# Altium schematic symbol library RPSLib.SchLib: 241 symbols (part 3 of 8)
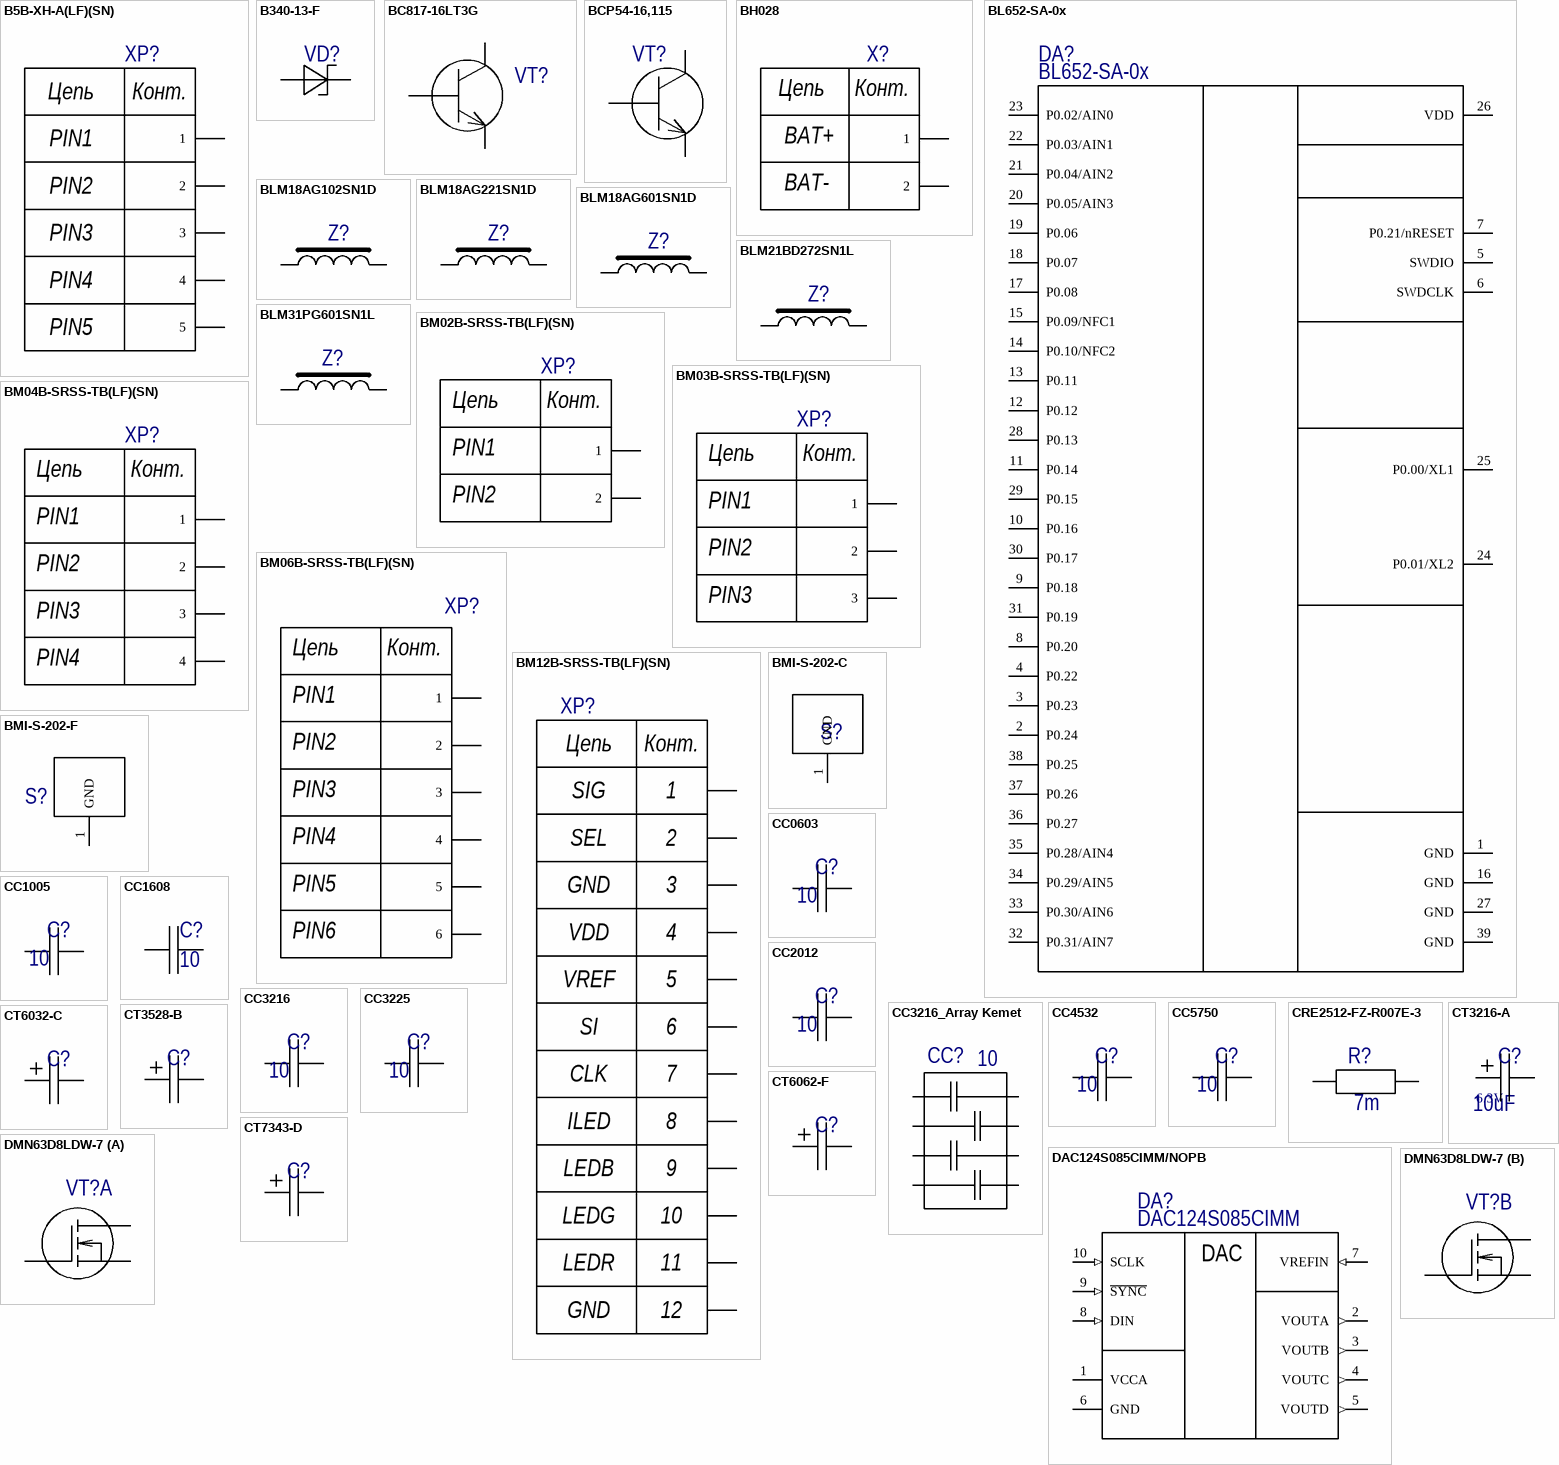
[diagram p27: symbols B5B-XH-A(LF)(SN) to DMN63D8LDW-7]

## CC1005
designator C?  value 10  (hidden comment: *)
Конденсатор 1.0x0.5 мм; Voltage: 16; Tolerance: ±5%; РКД Наименование: CC1005M - NP0 - 16 V - 10 pF ±5%; Type: *; PartNo: *; Supplier Part Number 1: *; Supplier 1: *; Manufacturer: *; Manufacturer Part Number: *
footprint CAPC1005X05N (Chip Capacitor, 2-Leads, Body 1.00x0.50mm, IPC Medium Density)
pins: 1, 2

## CC1608
designator C?  value 10  (hidden comment: *)
Конденсатор 1.6x0.8 мм; Tolerance: ±10%; ТКЕ: X7R; РКД Наименование: CC1608M - NP0 - 16 V - 10 pF ±10%; Voltage: *; Type: *; PartNo: *; Supplier Part Number 1: *; Supplier 1: *; Manufacturer: *; Manufacturer Part Number: *
footprint CAPC1608X09L (Chip Capacitor, 2-Leads, Body 1.60x0.80mm, IPC High Density)
footprint CAPC1608X05N (Chip Capacitor, 2-Leads, Body 1.60x0.80mm, IPC Medium Density)
pins: 1, 2

## CC2012
designator C?  value 10  (hidden comment: *)
Конденсатор 2.0x1.2 мм; Voltage: *; Type: *; PartNo: *; Supplier Part Number 1: *; Supplier 1: *; РКД Наименование: *; Manufacturer: *; Manufacturer Part Number: *
footprint CAPC2012X06N (Chip Capacitor, 2-Leads, Body 2.00x1.25mm, IPC Medium Density)
pins: 1, 2

## CC3216
designator C?  value 10  (hidden comment: *)
Конденсатор 3.2x1.6 мм; Tolerance: ±5%; Voltage: *; Type: *; PartNo: *; Supplier Part Number 1: *; Supplier 1: *; РКД Наименование: *; Manufacturer: *; Manufacturer Part Number: *
footprint CAPC3216X12L (Chip Capacitor, 2-Leads, Body 3.20x1.60mm, IPC High Density)
pins: 1, 2

## CC3216_Array Kemet
designator CC?  value 10  (hidden comment: *)
Конденсатор массиы 3,2x1.6 мм; Manufacturer: Kemet; Tolerance: ±10%; ТКЕ: X7R; Voltage: *; Type: *; PartNo: *; Supplier Part Number 1: *; Supplier 1: *; Manufacturer Part Number: *
footprint CAF-80P320X160-8N (Chip Array, Flat, 8-Leads, Pitch 0,80mm,  Body 3,20x1,60mm,  IPC Medium Density)
pins: 1, 2, 3, 4, 5, 6, 7, 8

## CC3225
designator C?  value 10  (hidden comment: *)
Конденсатор 3.2x2.5 мм; Voltage: *; Type: *; PartNo: *; Supplier Part Number 1: *; Supplier 1: *; Manufacturer: *; Manufacturer Part Number: *
footprint CAPC3225X28N (Chip Capacitor, 2-Leads, Body 3.20x2.50mm, IPC Medium Density)
pins: 1, 2

## CC4532
designator C?  value 10  (hidden comment: *)
Конденсатор 4.5x3.2 мм; Voltage: *; Type: *; PartNo: *; Supplier Part Number 1: *; Supplier 1: *; Manufacturer: *; Manufacturer Part Number: *
footprint CAPC4532X25N (Chip Capacitor, 2-Leads, Body 4.50x3.20mm, IPC Medium Density)
pins: 1, 2

## CC5750
designator C?  value 10  (hidden comment: *)
Конденсатор 5.7x5.0 мм; Voltage: *; Type: *; PartNo: *; Supplier Part Number 1: *; Supplier 1: *; Manufacturer: *; Manufacturer Part Number: *
footprint CAPC5750X23N (Chip Capacitor, 2-Leads, Body 5.70x5.00mm, IPC Medium Density)
pins: 1, 2

## CRE2512-FZ-R007E-3
designator R?  value 7m  (hidden comment: CRE2512-FZ-R007E-3)
RES 0.007 OHM 1% 3W 2512; Manufacturer: Bourns; Resistance: 7mR; Temperature Coefficient: 75ppm/°C; Supplier 1: Digi-Key; Manufacturer Part Number: CRE2512-FZ-R007E-3; RoHS: Yes; Category: Chip SMD Resistors; Stock 1: 15181; Pricing 1: 1=0,77000, 10=0,66800, 25=0,58680, 50=0,53640, 100=0,46550, 250=0,40480, 500=0,33598, 1000=0,27526 (USD); Mount: Surface Mount; Case/Package: 2512; Case Code (Metric): 6432; Case Code (Imperial): 2512; Contact Plating: Tin; Min Operating Temperature: -55°C; Max Operating Temperature: 170°C; Packaging: Cut Tape; Tolerance: 1%; Power Rating: 3W; Composition: Metal Film,Metal Alloy,Thick Film; Number of Terminations: 2; Termination: Solder; Max Power Dissipation: 3W; Features: Moisture Resistant,Automotive AEC-Q200; Length: 0.254inch; Height: 0.035inch; Width: 0.132inch; Depth: 3.35mm; REACH SVHC: No SVHC; ComponentLink1URL: https://datasheet.ciiva.com/46424/1838634-46424806.pdf?src-supplier=Element14; ComponentLink1Description: https://datasheet.ciiva.com/46424/1838634-46424806.pdf?src-supplier=Element14; ComponentLink2URL: https://datasheet.ciiva.com/46424/1838634-46424807.pdf?src-supplier=Element14; ComponentLink2Description: https://datasheet.ciiva.com/46424/1838634-46424807.pdf?src-supplier=Element14; Supplier Part Number 1: CRE2512-FZ-R007E-3CT-ND
footprint RESC6432X09N_CRE2512-R005-009 (Chip Resistor, 2-Leads, Body 6,40x3,20mm, IPC Medium Density)
pins: 1, 2

## CT3216-A
designator C?  value 10uF  Voltage: 6.3V  (hidden comment: *)
Tantalum Surface Mount Capacitor, Size A; Type: *; PartNo: *; Supplier Part Number 1: *; Supplier 1: *; Manufacturer: *; Manufacturer Part Number: *; Tolerance: *
footprint CAPMP3216X16N-A (Molded Capacitor, 2-Leads, Body 3.20x1.60mm, IPC Medium Density)
pins: 1, 2

## CT3528-B
designator C?  (value not drawn)
Tantalum Surface Mount Capacitor, Size B; Type: *; Value: *; Voltage: *; PartNo: *; Supplier Part Number 1: *; Supplier 1: *; Manufacturer: *; Manufacturer Part Number: *; Tolerance: *
footprint CAPMP3528X19N-B (Molded Capacitor, 2-Leads, Body 3.50x2.80mm, IPC Medium Density)
pins: 1, 2

## CT6032-C
designator C?  (value not drawn)
Tantalum Surface Mount Capacitor, Size C; Type: *; Value: *; Voltage: *; PartNo: *; Supplier Part Number 1: *; Supplier 1: *; Manufacturer: *; Manufacturer Part Number: *; Tolerance: *
footprint CAPMP6032X25N-C (Molded Capacitor, 2-Leads, Body 6.00x3.20mm, IPC Medium Density)
pins: 1, 2

## CT6062-F
designator C?  (value not drawn)
Tantalum Surface Mount Capacitor, Size F; Type: *; Value: *; Voltage: *; PartNo: *; Supplier Part Number 1: *; Supplier 1: *; Manufacturer: *; Manufacturer Part Number: *; Tolerance: *
footprint CAPMP6062X47N-F (Molded Capacitor, 2-Leads, Body 6.00x6.20mm, IPC Medium Density)
pins: 1, 2

## CT7343-D
designator C?  (value not drawn)
Tantalum Surface Mount Capacitor, Size D; Tolerance: ±; Type: *; Value: *; Voltage: *; PartNo: *; Supplier Part Number 1: *; Supplier 1: *; Manufacturer: *; Manufacturer Part Number: *
footprint CAPMP7343X28N-D (Molded Capacitor, 2-Leads, Body 7.30x4.30mm, IPC Medium Density)
pins: 1, 2

## DAC124S085CIMM/NOPB
designator DA?, comment DAC124S085CIMM
TEXAS INSTRUMENTS - DAC124S085CIMM/NOPB - DIGITAL TO ANALOG CONVERTER DAC, 12 BIT, MSOP-10; Manufacturer: TI National Semiconductor; Settling Time: 8.5us; Resolution: 12b; Integral Nonlinearity (INL): 8LSB; Output Type: Voltage; Max Supply Voltage: 5.5V; Min Supply Voltage: 2.7V; Interface: SPI; Number of Channels: 4; Operating Supply Voltage: 5V; Number of Bits: 12; Polarity: Unipolar; Supply Type: Single; Power Consumption: 1.1mW; Nominal Supply Current: 480uA; Differential Nonlinearity: 2LSB; Supplier 1: Digi-Key; Manufacturer Part Number: DAC124S085CIMM/NOPB; Stock 1: 3369; Pricing 1: 1=6,47000, 10=5,84600, 100=4,62260, 500=3,94284 (USD); RoHS: Yes; Mount: Surface Mount; Case/Package: VSSOP; Number of Pins: 10; Weight: 0.000836oz; Contact Plating: Tin; Min Operating Temperature: -40°C; Max Operating Temperature: 105°C; Package Quantity: 1000; Packaging: Tape and Reel; Number of DAC Channels: 4; Number of Converters: 4; Max Power Dissipation: 1.1mW; Length: 3mm; Height: 0.86mm; Width: 3mm; Radiation Hardening: No; REACH SVHC: No SVHC; Lead Free: Lead Free; ComponentLink1URL: https://datasheet.ciiva.com/41460/001186509-da-01-en-ic-dac-1-dac124s085cimm-nopb-msop-10-tid-41460671.pdf?src-supplier=Conrad; ComponentLink1Description: https://datasheet.ciiva.com/41460/001186509-da-01-en-ic-dac-1-dac124s085cimm-nopb-msop-10-tid-41460671.pdf?src-supplier=Conrad; ComponentLink2URL: https://datasheet.ciiva.com/7632/1850953-7632325.pdf?src-supplier=Element14; ComponentLink2Description: https://datasheet.ciiva.com/7632/1850953-7632325.pdf?src-supplier=Element14; ComponentLink3URL: https://datasheet.ciiva.com/6666/dac124s085-6666502.pdf?src-supplier=Digi-Key; ComponentLink3Description: https://datasheet.ciiva.com/6666/dac124s085-6666502.pdf?src-supplier=Digi-Key; ComponentLink4URL: https://datasheet.ciiva.com/6666/dac124s085-6666505.pdf?src-supplier=Digi-Key; ComponentLink4Description: https://datasheet.ciiva.com/6666/dac124s085-6666505.pdf?src-supplier=Digi-Key; ComponentLink5URL: https://datasheet.ciiva.com/6666/dac124s085-6666507.pdf?src-supplier=Digi-Key; ComponentLink5Description: https://datasheet.ciiva.com/6666/dac124s085-6666507.pdf?src-supplier=Digi-Key; ComponentLink6URL: https://datasheet.ciiva.com/49118/1850953-49118555.pdf?src-supplier=Element14; ComponentLink6Description: https://datasheet.ciiva.com/49118/1850953-49118555.pdf?src-supplier=Element14; Supplier Part Number 1: DAC124S085CIMM/NOPBCT-ND
footprint TSSOP50P490X110-10N (TSSOP, 10-Leads, Body 3,00x3,00mm, Pitch 0,50mm, IPC Medium Density)
pins: 1 VCCA (power), 2 VOUTA (out), 3 VOUTB (out), 4 VOUTC (out), 5 VOUTD (out), 6 GND (power), 7 VREFIN (in), 8 DIN (in), 9 ~{SYNC} (in), 10 SCLK (in)
text: DAC

## DMN63D8LDW-7
designator VT?  (value not drawn)
MOSFET 2N-CH 30V 0.22A SOT363; Manufacturer: Diodes; Rise Time: 3.2ns; Rds On Max: 2.8R; Input Capacitance: 22pF; Continuous Drain Current (ID): 260mA; Max Power Dissipation: 300mW; Turn-On Delay Time: 3.3ns; Turn-Off Delay Time: 12ns; Fall Time: 6.3ns; Number of Elements: 2; Power Dissipation: 400mW; Threshold Voltage: 1.5V; Gate to Source Voltage (Vgs): 20V; Element Configuration: Dual; FET Type: 2 N-Channel; Supplier 1: Digi-Key; Manufacturer Part Number: DMN63D8LDW-7; RoHS: Yes; Category: MOSFETs; Stock 1: 258650; Pricing 1: 1=0,31000, 10=0,25000, 100=0,10250, 500=0,08552, 1000=0,05942 (USD); Mount: Surface Mount; Case/Package: SOT-363; Number of Pins: 6; Weight: 0.000212oz; Contact Plating: Tin,Matte; Min Operating Temperature: -55°C; Max Operating Temperature: 150°C; Package Quantity: 3000; Packaging: Tape and Reel; Drain to Source Voltage (Vdss): 30V; Drain to Source Resistance: 2.8R; Number of Channels: 2; Drain to Source Breakdown Voltage: 30V; Length: 2.2mm; Height: 1mm; Width: 1.35mm; Radiation Hardening: No; REACH SVHC: No SVHC; Lead Free: Lead Free; ComponentLink1URL: https://datasheet.ciiva.com/30023/dmn63d8ldw-30023824.pdf?src-supplier=Avnet; ComponentLink1Description: https://datasheet.ciiva.com/30023/dmn63d8ldw-30023824.pdf?src-supplier=Avnet; ComponentLink2URL: https://datasheet.ciiva.com/6384/dmn63d8ldw-6384534.pdf?src-supplier=Digi-Key; ComponentLink2Description: https://datasheet.ciiva.com/6384/dmn63d8ldw-6384534.pdf?src-supplier=Digi-Key; Supplier Part Number 1: DMN63D8LDW-7CT-ND
footprint SOT65P210X100-6N (SOT23, 6-Leads, Body 2,00x2,10mm, Pitch 0,65mm, IPC Medium Density)
part A pins: 1 S1, 2 G1, 6 D1
part B pins: 3 D2, 4 S2, 5 G2
1 alternate drawing of the same symbol

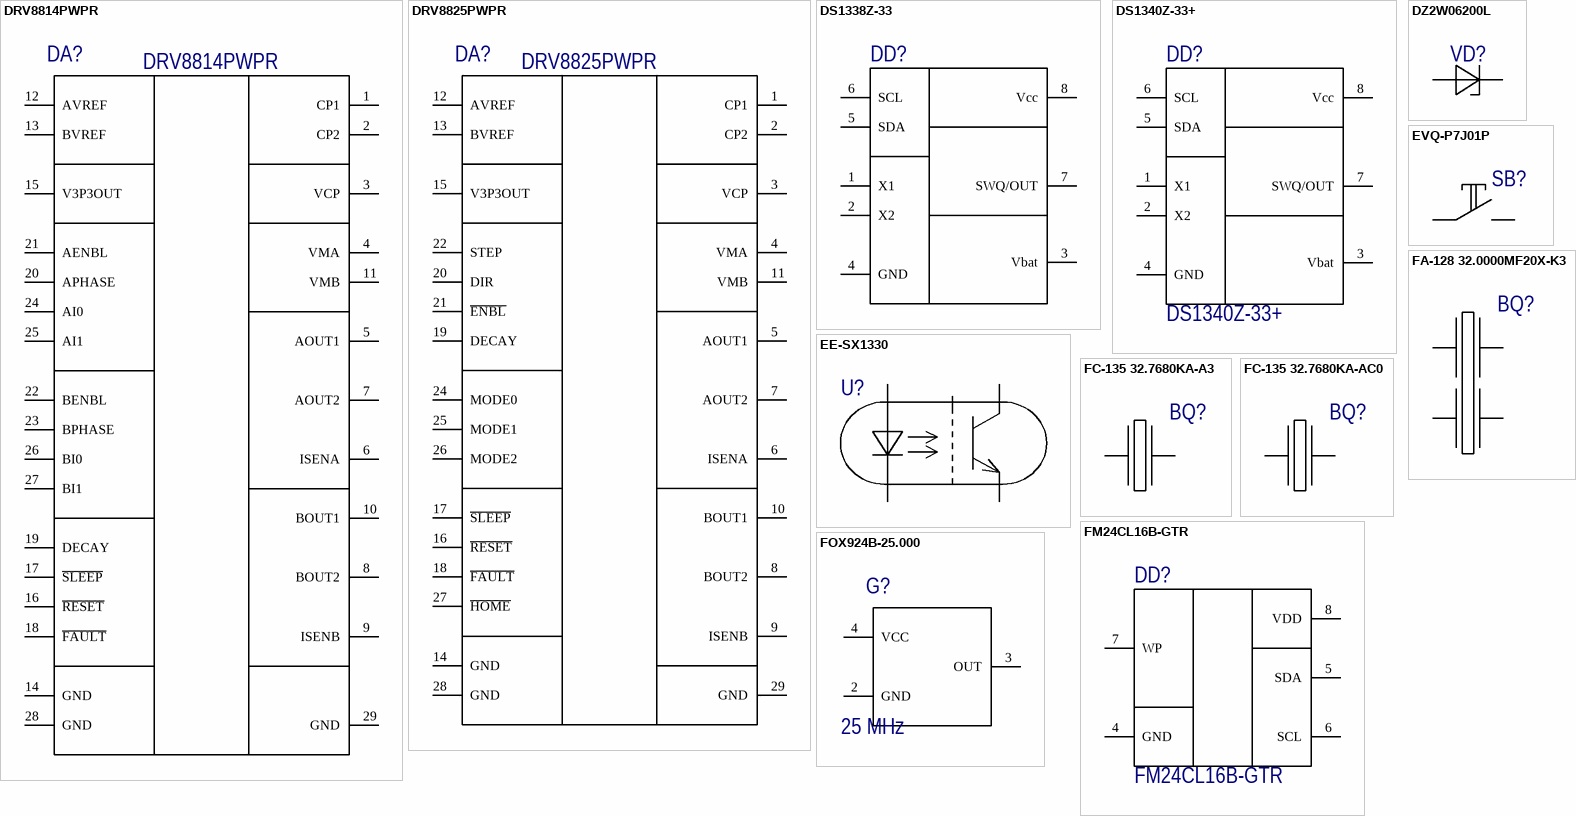
[diagram p3: symbols DRV8814PWPR to FOX924B-25.000]

## DRV8814PWPR
designator DA?
IC MOTOR DRIVER 8V-45V 28HTSSOP; Manufacturer: Texas Instruments; Output Current: 1.75A; Number of Outputs: 2; Min Supply Voltage: 8V; Max Supply Voltage: 45V; Interface: Parallel; Nominal Supply Current: 5mA; Output Voltage: 3.3V; Logic Function: AND; Description 1: TEXAS INSTRUMENTS         DRV8814PWPR             DC, DUAL, MOTOR DRIVER, 28-HTSSOP; Supplier 1: Digi-Key; Stock 1: 15621; Pricing 1: 1=3.72, 10=3.344, 100=2.7396, 500=2.33216, 1000=1.96689 (USD); Mount: Surface Mount; Case/Package: HTSSOP EP; Number of Pins: 28; Min Operating Temperature: -40°C; Max Operating Temperature: 85°C; Package Quantity: 2000; Packaging: Tape and Reel; Radiation Hardening: No; REACH SVHC: No SVHC; Lead Free: Lead Free; ComponentLink1URL: http://www.ti.com/lit/ds/symlink/drv8814.pdf?src-supplier=Digi-Key; ComponentLink1Description: http://www.ti.com/lit/ds/symlink/drv8814.pdf?src-supplier=Digi-Key; ComponentLink2URL: http://www.ti.com/lit/gpn/drv8814?src-supplier=Mouser; ComponentLink2Description: http://www.ti.com/lit/gpn/drv8814?src-supplier=Mouser; ComponentLink3URL: https://www.verical.com/server-webapp/html/getDatasheet?partID=318882&src-supplier=Verical; ComponentLink3Description: https://www.verical.com/server-webapp/html/getDatasheet?partID=318882&src-supplier=Verical; ComponentLink4URL: http://sg.element14.com/webapp/wcs/stores/servlet/OpenCAD?catalogId=15001&langId=65&id=800000278283&storeId=10191&returnURL=http%3A%2F%2Fsg.element14.com%2Ftexas-instruments%2Fdrv8814pwpr%2Fdc-dual-motor-driver-28-htssop%2Fdp%2F1895364&src-supplier=Element14; ComponentLink4Description: http://sg.element14.com/webapp/wcs/stores/servlet/OpenCAD?catalogId=15001&langId=65&id=800000278283&storeId=10191&returnURL=http%3A%2F%2Fsg.element14.com%2Ftexas-instruments%2Fdrv8814pwpr%2Fdc-dual-motor-driver-28-htssop%2Fdp%2F1895364&src-supplier=Element14; ComponentLink5URL: http://www.ti.com/general/docs/lit/getliterature.tsp?genericPartNumber=DRV8814&&fileType=pdf&src-supplier=Avnet; ComponentLink5Description: http://www.ti.com/general/docs/lit/getliterature.tsp?genericPartNumber=DRV8814&&fileType=pdf&src-supplier=Avnet; ComponentLink6URL: http://www.produktinfo.conrad.com/datenblaetter/1000000-1099999/001013561-da-01-en-IC_MOTOR_DRIVER_DRV8814PWPR_TSSOP_28_TID.pdf?src-supplier=Conrad; ComponentLink6Description: http://www.produktinfo.conrad.com/datenblaetter/1000000-1099999/001013561-da-01-en-IC_MOTOR_DRIVER_DRV8814PWPR_TSSOP_28_TID.pdf?src-supplier=Conrad; Manufacturer Part Number: DRV8814PWPR; Supplier Part Number 1: 296-28359-1-ND
footprint TSOP65P640X120_HS-29N (TSOP, 28-Leads, Body 9,70x4,40mm, Pitch 0,65mm, Thermal Pad 5,18x3,10mm, IPC Medium Density)
pins: 1 CP1, 2 CP2, 3 VCP, 4 VMA, 5 AOUT1, 6 ISENA, 7 AOUT2, 8 BOUT2, 9 ISENB, 10 BOUT1, 11 VMB, 12 AVREF, 13 BVREF, 14 GND, 15 V3P3OUT, 16 ~{RESET}, 17 ~{SLEEP}, 18 ~{FAULT}, 19 DECAY, 20 APHASE, 21 AENBL, 22 BENBL, 23 BPHASE, 24 AI0, 25 AI1, 26 BI0, 27 BI1, 28 GND, 29 GND

## DRV8825PWPR
designator DA?
IC MOTOR DRIVER PAR 28HTSSOP; Manufacturer: Texas Instruments; Output Current: 2.5A; Min Supply Voltage: 8V; Max Supply Voltage: 45V; Logic Function: AND; Supplier 1: Digi-Key; Stock 1: 63410; Pricing 1: 1=3.84, 10=3.452, 100=2.828, 500=2.4074, 1000=2.03034 (USD); Mount: Surface Mount; Case/Package: HTSSOP EP; Number of Pins: 28; Min Operating Temperature: -40°C; Max Operating Temperature: 85°C; Package Quantity: 1; Packaging: Tape and Reel; Nominal Supply Current: 2.5A; Type: Integrated Circuit (IC); Radiation Hardening: No; Lead Free: Lead Free; ComponentLink1URL: http://www.ti.com/lit/ds/symlink/drv8825.pdf?src-supplier=Avnet+Europe; ComponentLink1Description: http://www.ti.com/lit/ds/symlink/drv8825.pdf?src-supplier=Avnet+Europe; ComponentLink2URL: http://www.ti.com/general/docs/lit/getliterature.tsp?genericPartNumber=DRV8825&&fileType=pdf&src-supplier=Avnet; ComponentLink2Description: http://www.ti.com/general/docs/lit/getliterature.tsp?genericPartNumber=DRV8825&&fileType=pdf&src-supplier=Avnet; ComponentLink3URL: https://www.verical.com/server-webapp/html/getDatasheet?partID=625248&src-supplier=Verical; ComponentLink3Description: https://www.verical.com/server-webapp/html/getDatasheet?partID=625248&src-supplier=Verical; ComponentLink4URL: http://www.ti.com/lit/pdf/slyb191?src-supplier=Digi-Key; ComponentLink4Description: http://www.ti.com/lit/pdf/slyb191?src-supplier=Digi-Key; Manufacturer Part Number: DRV8825PWPR; Supplier Part Number 1: 296-29503-1-ND; Description 1: IC MOTOR DRIVER PAR 28HTSSOP
footprint TSOP65P640X120_HS-29N (TSOP, 28-Leads, Body 9,70x4,40mm, Pitch 0,65mm, Thermal Pad 5,18x3,10mm, IPC Medium Density)
pins: 1 CP1, 2 CP2, 3 VCP, 4 VMA, 5 AOUT1, 6 ISENA, 7 AOUT2, 8 BOUT2, 9 ISENB, 10 BOUT1, 11 VMB, 12 AVREF, 13 BVREF, 14 GND, 15 V3P3OUT, 16 ~{RESET}, 17 ~{SLEEP}, 18 ~{FAULT}, 19 DECAY, 20 DIR, 21 ~{ENBL}, 22 STEP, 24 MODE0, 25 MODE1, 26 MODE2, 27 ~{HOME}, 28 GND, 29 GND

## DS1338Z-33
designator DD?  (value not drawn)
I2C RTC with 56 Byte NV RAM; РКД Наименование: LP2985-33DBVR - LDO 3.3 V, 150 mA, SOT-23
footprint SOIC127P600X175-8N (SOIC, 8-Leads, Body 4.90x3.90mm, Pitch 1.27mm, IPC Medium Density)
pins: 1 X1, 2 X2, 3 Vbat, 4 GND, 5 SDA, 6 SCL, 7 SWQ/OUT, 8 Vcc

## DS1340Z-33+
designator DD?
IC RTC CLK/CALENDAR I2C 8-SOIC; Manufacturer: Maxim; Logic Function: Clock; Time Format: HH:MM:SS; Operating Supply Voltage: 3.3V; Max Supply Voltage: 5.5V; Min Supply Voltage: 2.97V; Interface: I2C,Serial,2-Wire; Date Format: YY-MM-DD-dd; Number of Outputs: 1; Frequency: 32.768kHz; Supplier 1: Digi-Key; Supplier Part Number 1: DS1340Z-33+-ND; Manufacturer Part Number: DS1340Z-33+; Stock 1: 1260; Pricing 1: 1=3.82, 10=3.427, 25=3.24, 100=2.808, 300=2.664, 500=2.3904, 1000=2.016, 2500=1.9152, 5000=1.8432 (USD); Mount: Surface Mount; Case/Package: SOIC; Number of Pins: 8; Weight: 0.019048oz; Contact Plating: Tin,Matte; Min Operating Temperature: -40°C; Max Operating Temperature: 85°C; Packaging: Rail/Tube; Package Quantity: 100; Termination: SMD/SMT; Length: 5mm; Height: 1.5mm; Width: 4mm; Radiation Hardening: No; REACH SVHC: Unknown; Lead Free: Lead Free; ComponentLink1URL: http://datasheets.maxim-ic.com/en/ds/DS1340-DS1340C.pdf?src-supplier=Avnet; ComponentLink1Description: http://datasheets.maxim-ic.com/en/ds/DS1340-DS1340C.pdf?src-supplier=Avnet; ComponentLink2URL: http://datasheets.maximintegrated.com/en/ds/DS1340-DS1340C.pdf?src-supplier=Avnet+Europe; ComponentLink2Description: http://datasheets.maximintegrated.com/en/ds/DS1340-DS1340C.pdf?src-supplier=Avnet+Europe; ComponentLink3URL: http://datasheets.maximintegrated.com/en/ds/DS1340-DS1340C.pdf?src-supplier=Digi-Key; ComponentLink3Description: http://datasheets.maximintegrated.com/en/ds/DS1340-DS1340C.pdf?src-supplier=Digi-Key
footprint SOIC127P600X175-8N (SOIC, 8-Leads, Body 4.90x3.90mm, Pitch 1.27mm, IPC Medium Density)
pins: 1 X1, 2 X2, 3 Vbat, 4 GND, 5 SDA, 6 SCL, 7 SWQ/OUT, 8 Vcc

## DZ2W06200L
designator VD?  (value not drawn)
PANASONIC   DZ2W06200L   Zener Single Diode, 6.2 V, 1 W, SOD-123F, 5 %, 2 Pins, 85 C; Tolerance: 5%; Max Power Dissipation: 1W; Zener Voltage: 6.2V; Impedance: 30R; Zener Current: 10mA; Max Reverse Leakage Current: 20uA; Supplier 1: Digi-Key; Manufacturer: Panasonic; Manufacturer Part Number: DZ2W06200L; Stock 1: 25200; Pricing 1: 1=0.48, 10=0.403, 25=0.3524, 100=0.3021, 250=0.2618, 500=0.2215, 1000=0.1712 (USD); Mount: Surface Mount; Number of Pins: 2; Contact Plating: Tin; Min Operating Temperature: -40°C; Max Operating Temperature: 85°C; Package Quantity: 1; Packaging: Tape and Reel; Voltage Tolerance: 5%; Test Current: 10mA; Element Configuration: Single; Length: 2.6mm; Height: 0.7mm; Width: 1.6mm; REACH SVHC: No SVHC; ComponentLink1URL: http://www.farnell.com/datasheets/1916125.pdf?src-supplier=Element14; ComponentLink1Description: http://www.farnell.com/datasheets/1916125.pdf?src-supplier=Element14; ComponentLink2URL: http://www.farnell.com/datasheets/1680979.pdf?src-supplier=Farnell; ComponentLink2Description: http://www.farnell.com/datasheets/1680979.pdf?src-supplier=Farnell; ComponentLink3URL: http://www.farnell.com/datasheets/1680979.pdf?src-supplier=Element14; ComponentLink3Description: http://www.farnell.com/datasheets/1680979.pdf?src-supplier=Element14; Supplier Part Number 1: DZ2W06200LCT-ND
footprint SODFL350X110-2N (SODFL, 2-Leads, Body 1,65x3,50mm, IPC Medium Density)
pins: 1, 2

## EE-SX1330
designator U?  (value not drawn)
Photointerrupter Transmissive Phototransistor 4-Pin SMD T/R; Manufacturer: Omron; Supplier 1: Digi-Key; Manufacturer Part Number: EE-SX1330; RoHS: No; Category: Optical Sensors; Stock 1: 50386; Pricing 1: 1=1,46000, 5=1,40400, 10=1,14100, 25=0,98320, 50=0,85140, 100=0,77250, 500=0,64958 (USD); ComponentLink1URL: https://media.digikey.com/pdf/Data%20Sheets/Omron%20PDFs/EE-SX1320,1330,4320_Intro.pdf?src-supplier=Digi-Key; ComponentLink1Description: https://media.digikey.com/pdf/Data%20Sheets/Omron%20PDFs/EE-SX1320,1330,4320_Intro.pdf?src-supplier=Digi-Key; ComponentLink2URL: https://omronfs.omron.com/en_US/ecb/products/pdf/en-ee_sx1330.pdf?src-supplier=Digi-Key; ComponentLink2Description: https://omronfs.omron.com/en_US/ecb/products/pdf/en-ee_sx1330.pdf?src-supplier=Digi-Key; Supplier Part Number 1: Z6364CT-ND
footprint EE_SX1330 (Photointerrupter)
pins: 1, 2, 3, 4

## EVQ-P7J01P
designator SB?  (value not drawn)
Tactile Switches 3.5x2.9mm Right Ang Light Touch Switch; PartNo: 430152070836; Manufacturer: Wurth Elektronik; Mechanical Life: 100000Cycles; Operating Force: 1.6N; Current Rating: 50mA; Voltage Rating (DC): 12V; Throw Configuration: SPST; Contact Resistance: 500mR; Illumination Type: Non-Illuminated; Switch Travel: 0.2mm; Switch Function: Off-Mom; Actuator Length: 0.65mm; ComponentLink1Description: Manufacturer; ComponentLink1URL: http://www.we-online.de; Created by: Baojun Chen; Created Date: Dec.2015; ComponentLink2Description: Datasheet; ComponentLink2URL: http://katalog.we-online.de/em/datasheet/4301x2xxx8x6.pdf; Supplier 1: Digi-Key; Manufacturer Part Number: EVQ-P7J01P; Stock 1: 44998; Pricing 1: 1=0.31, 10=0.303, 25=0.292, 50=0.2814, 100=0.2706, 250=0.24892, 500=0.21644, 1000=0.18397 (USD); Mount: Surface Mount; Case/Package: SMD/SMT; Min Operating Temperature: -20°C; Max Operating Temperature: 70°C; Package Quantity: 5000; Packaging: Tape and Reel; Max Voltage Rating (DC): 12V; Termination: Gull Wing; Contact Current Rating: 50mA; Electrical Life: 100000Cycles; Orientation: Right Angle; Length: 3.5mm; Height: 1.35mm; Width: 2.9mm; Radiation Hardening: No; REACH SVHC: No SVHC; Lead Free: Lead Free; Supplier Part Number 1: P16767CT-ND; РКД Наименование: *
footprint EVQ-P7J01P (Tactile switch)
pins: 1, 2

## FA-128 32.0000MF20X-K3
designator BQ?  (value not drawn)
Crystals 32MHz 10ppm 10pF -40C +85C; Manufacturer: Epson; Frequency Stability: 20ppm; ESR (Equivalent Series Resistance): 60R; РКД Наименование: FA-128 32.0000MF20X-K3 - 32 MHz Crystal, 10 pF; Supplier 1: Digi-Key; Manufacturer Part Number: FA-12832.0000MF20X-K3; Stock 1: 36825; Pricing 1: 1=0.59, 10=0.495, 50=0.4456, 100=0.396 (USD); Mount: Surface Mount; Case/Package: SMD/SMT; Number of Pins: 4; Min Operating Temperature: -40°C; Max Operating Temperature: 85°C; Frequency: 32MHz; Load Capacitance: 10pF; Frequency Tolerance: 10ppm; Packaging: Tape and Reel; Tolerance: 10ppm; Package Quantity: 250; Termination: SMD/SMT; Length: 0.079inch; Height: 0.02inch; Width: 0.063inch; Lead Free: Lead Free; Supplier Part Number 1: SER3800CT-ND
footprint BT-XTAL_2016 (Crystal 2.0 x 1.6 mm)
pins: 1, 2, 3 2, 4

## FC-135 32.7680KA-A3
designator BQ?  (value not drawn)
32.768kHz ±20ppm Crystal 12.5pF 70 kOhms 2-SMD, No Lead; Manufacturer: Epson; РКД Наименование: FC-13532.7680KA-AC0 - 32.768 kHz Crystal; ESR (Equivalent Series Resistance): 70kR; Supplier 1: Digi-Key; Supplier Part Number 1: SE2413CT-ND; Manufacturer Part Number: FC-13532.7680KA-A3; Stock 1: 252080; Pricing 1: 1=0.41, 10=0.344, 50=0.3094, 100=0.275 (USD); Mount: Surface Mount; Case/Package: SMD/SMT; Number of Pins: 2; Weight: 0.000564oz; Min Operating Temperature: -40°C; Max Operating Temperature: 85°C; Frequency: 32.768kHz; Frequency Tolerance: 20ppm; Load Capacitance: 12.5pF; Packaging: Tape and Reel; Package Quantity: 1; Tolerance: 20ppm; Termination: SMD/SMT; Frequency Stability: 20ppm; Length: 3.2mm; Height: 0.035inch; Width: 0.059inch; Depth: 1.5mm; Lead Free: Contains Lead; ComponentLink1URL: https://www.verical.com/server-webapp/html/getDatasheet?partID=112713&src-supplier=Verical; ComponentLink1Description: https://www.verical.com/server-webapp/html/getDatasheet?partID=112713&src-supplier=Verical; ComponentLink2URL: https://www.verical.com/server-webapp/html/getDatasheet?partID=788185&src-supplier=Verical; ComponentLink2Description: https://www.verical.com/server-webapp/html/getDatasheet?partID=788185&src-supplier=Verical
footprint XTAL_3215
pins: 1, 2

## FC-135 32.7680KA-AC0
designator BQ?  (value not drawn)
Crystals 32.768KHz 20ppm 9.0pF -40C -85C; Manufacturer: Epson; ESR (Equivalent Series Resistance): 70kR; Load Capacitance: 9pF; РКД Наименование: FC-13532.7680KA-AC0 - 32.768 kHz Crystal; Supplier 1: Digi-Key; Manufacturer Part Number: FC-13532.7680KA-AC0; Stock 1: 0; Mount: Surface Mount; Case/Package: SMD/SMT; Weight: 0.000564oz; Min Operating Temperature: -40°C; Max Operating Temperature: 85°C; Frequency: 32.768kHz; Packaging: Tape and Reel; Frequency Tolerance: 20ppm; Package Quantity: 1000; Tolerance: 20ppm; Termination: SMD/SMT; Frequency Stability: 20ppm; Length: 0.126inch; Height: 0.035inch; Width: 0.059inch; Radiation Hardening: No; Supplier Part Number 1: SER4084CT-ND
footprint XTAL_3215
pins: 1, 2

## FM24CL16B-GTR
designator DD?
IC FRAM 16K I2C 1MHZ 8SOIC; Manufacturer: Cypress; Max Supply Voltage: 3.65V; Min Supply Voltage: 2.7V; Density: 16Kb; Operating Supply Voltage: 3V; Interface: I2C,Serial,2-Wire; Word Size: 8b; Access Time: 550ns; Nominal Supply Current: 300uA; Memory Type: RAM,FRAM; Supplier 1: Digi-Key; Stock 1: 12640; Pricing 1: 1=1.85, 10=1.687, 25=1.6416, 50=1.6328, 100=1.4596, 250=1.45532, 500=1.43364, 1000=1.37214 (USD); Mount: Surface Mount; Case/Package: SOIC; Number of Pins: 8; Contact Plating: Tin,Matte; Min Operating Temperature: -40°C; Max Operating Temperature: 85°C; Packaging: Tape and Reel; Package Quantity: 2500; Frequency: 1MHz; Memory Size: 16KB; Data Bus Width: 8b; Lead Free: Lead Free; Supplier Part Number 1: 428-3310-1-ND; Manufacturer Part Number: FM24CL16B-GTR
footprint SOIC127P600X175-8N (SOIC, 8-Leads, Body 4.90x3.90mm, Pitch 1.27mm, IPC Medium Density)
pins: 1 NC hidden, 2 NC hidden, 3 NC hidden, 4 GND (power), 5 SDA, 6 SCL, 7 WP, 8 VDD (power)

## FOX924B-25.000
designator G?  value 25 MHz  (hidden comment: FOX924B-25.000)
OSC TCXO 25.000MHZ HCMOS SMD; Manufacturer: Fox Electronics; РКД Наименование: FOX924B-25.000 - TCXO 25 MHz; Load Capacitance: 15pF; Frequency Tolerance: 1.5ppm; Operating Supply Voltage: 3.3V; Frequency Stability: 2.5ppm; Frequency: 25MHz; Min Supply Voltage: 3.135V; Max Supply Voltage: 3.465V; Max Supply Current: 6mA; PartNo: FOX924B-25.000; Supplier 1: Digi-Key; Manufacturer Part Number: FOX924B-25.000; Stock 1: 0; Mount: Surface Mount; Case/Package: SMD/SMT; Number of Pins: 4; Min Operating Temperature: -30°C; Max Operating Temperature: 85°C; Packaging: Tape and Reel; Package Quantity: 1000; Length: 0.197inch; Height: 0.059inch; Width: 0.126inch; Radiation Hardening: No; REACH SVHC: No SVHC; Lead Free: Lead Free; Supplier Part Number 1: 631-1074-1-ND
footprint FOX924 (Ultra Miniature SMD TCXO, 5x7mm)
pins: 2 GND, 3 OUT, 4 VCC

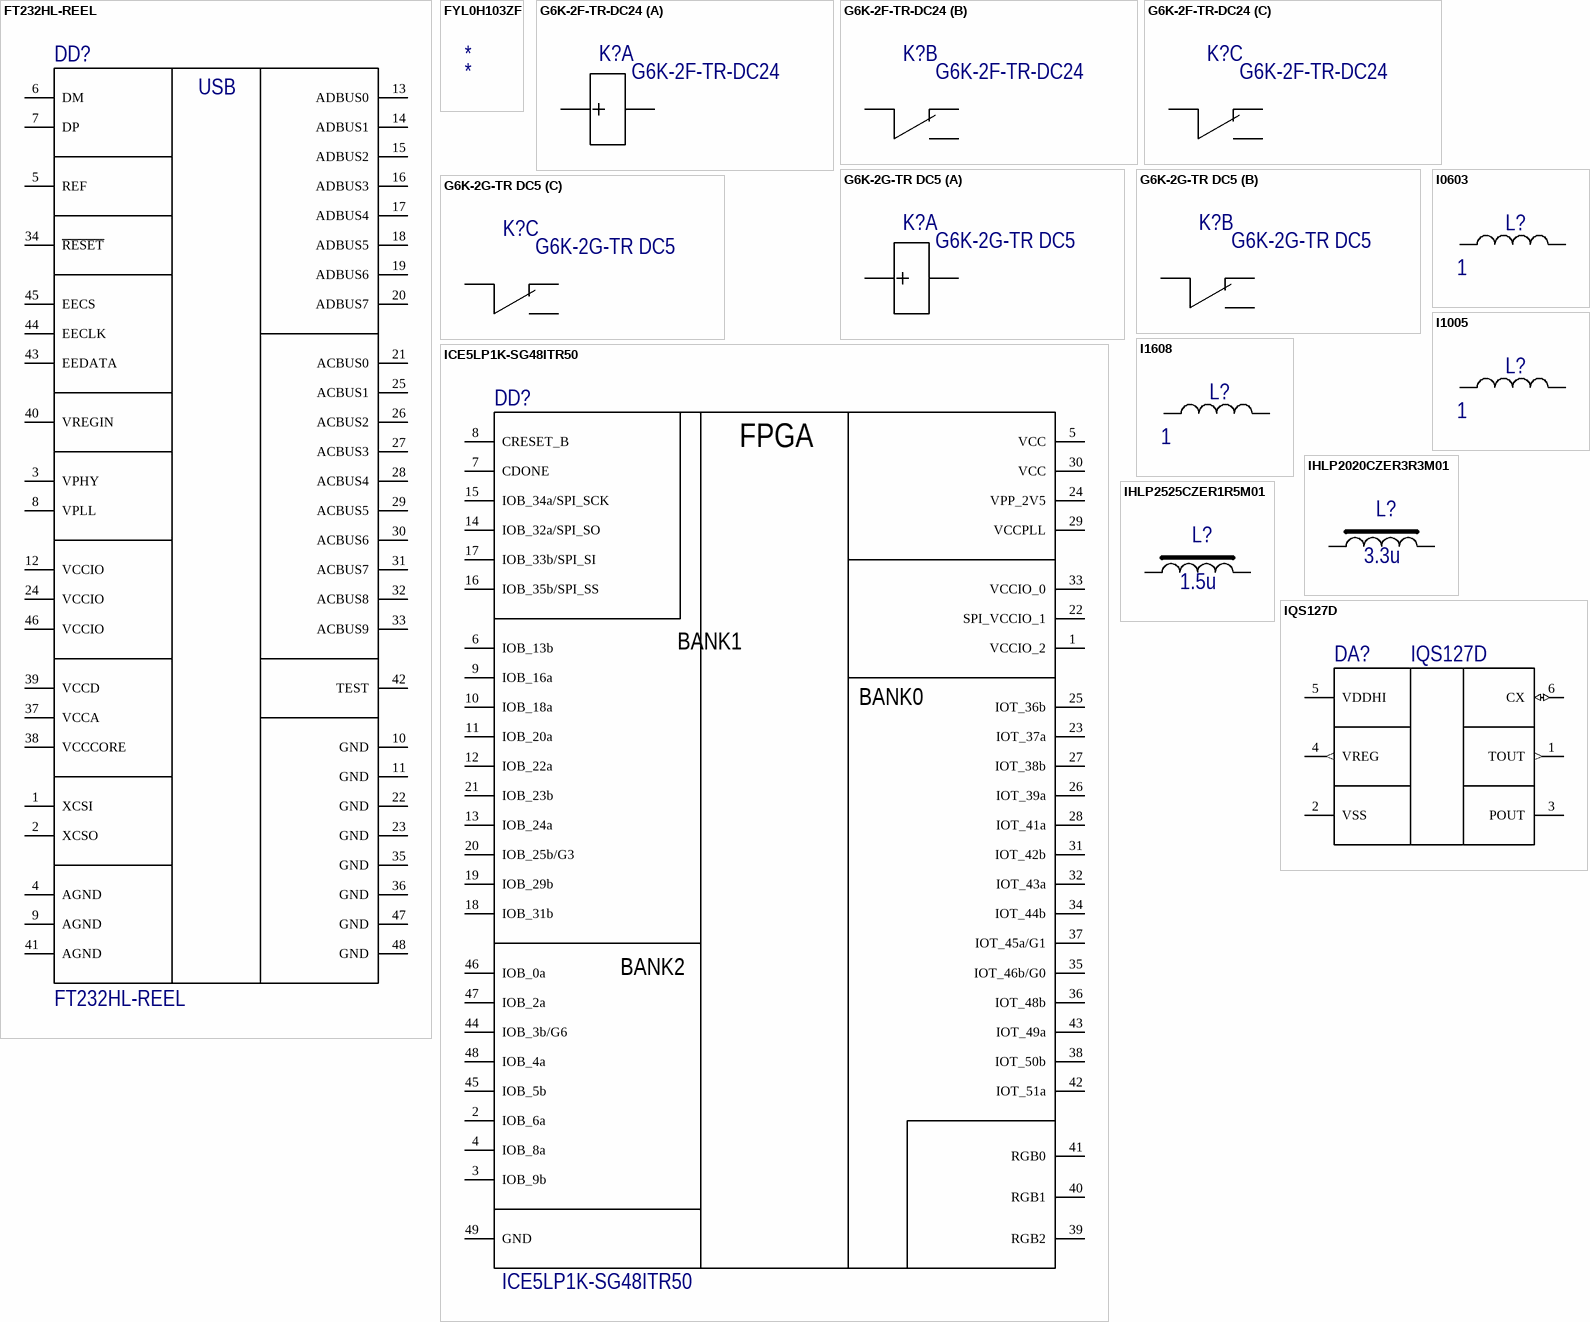
[diagram p4: symbols FT232HL-REEL to IQS127D]

## FT232HL-REEL
designator DD?
IC HS USB TO UART/FIFO 48LQFP; Manufacturer: FTDI; Max Supply Voltage: 3.63V; Interface: RS-232,RS-422,RS-485,UART; Operating Supply Current: 24mA; Min Supply Voltage: 2.97V; Operating Supply Voltage: 3.3V; Number of Channels: 1; Nominal Supply Current: 60mA; Data Rate: 12Mbps; Supplier 1: Digi-Key; Manufacturer Part Number: FT232HL-REEL; Stock 1: 26419; Pricing 1: 1=4.25, 10=3.55, 100=3.1, 250=2.95, 500=2.85002 (USD); Mount: Surface Mount; Case/Package: LQFP; Number of Pins: 48; Weight: 0.006409oz; Min Operating Temperature: -40°C; Max Operating Temperature: 85°C; Packaging: Tape and Reel; Package Quantity: 1; Length: 7mm; Height: 1.4mm; Width: 7mm; Lead Free: Lead Free; REACH SVHC: No SVHC; ComponentLink1URL: http://www.ftdichip.com/Support/Documents/DataSheets/ICs/DS_FT232H.pdf; ComponentLink1Description: http://www.ftdichip.com/Support/Documents/DataSheets/ICs/DS_FT232H.pdf; ComponentLink2URL: http://www.farnell.com/datasheets/1913746.pdf; ComponentLink2Description: http://www.farnell.com/datasheets/1913746.pdf; ComponentLink3URL: http://www.mouser.com/ds/2/163/DS_FT232H-11324.pdf; ComponentLink3Description: http://www.mouser.com/ds/2/163/DS_FT232H-11324.pdf; Supplier Part Number 1: 768-1101-1-ND
footprint TSQFP50P900X900X160-48N (TSQFP, 48-Leads, Body 7,00x7,00mm, Pitch 0,50mm, IPC Medium Density)
pins: 1 XCSI, 2 XCSO, 3 VPHY, 4 AGND, 5 REF, 6 DM, 7 DP, 8 VPLL, 9 AGND, 10 GND, 11 GND, 12 VCCIO, 13 ADBUS0, 14 ADBUS1, 15 ADBUS2, 16 ADBUS3, 17 ADBUS4, 18 ADBUS5, 19 ADBUS6, 20 ADBUS7, 21 ACBUS0, 22 GND, 23 GND, 24 VCCIO, 25 ACBUS1, 26 ACBUS2, 27 ACBUS3, 28 ACBUS4, 29 ACBUS5, 30 ACBUS6, 31 ACBUS7, 32 ACBUS8, 33 ACBUS9, 34 ~{RESET}, 35 GND, 36 GND, 37 VCCA, 38 VCCCORE, 39 VCCD, 40 VREGIN, 41 AGND, 42 TEST, 43 EEDATA, 44 EECLK, 45 EECS, 46 VCCIO, 47 GND, 48 GND
text: USB

## FYL0H103ZF
designator *
Manufacturer: KEMET; Manufacturer Part Number: FYL0H103ZF; Tolerance: 80%; Voltage Rating (DC): 5.5V; ESR (Equivalent Series Resistance): 300R; Capacitance: 10mF; Leakage Current: 15uA; Supplier 1: Digi-Key; Supplier Part Number 1: 399-10789-ND; Stock 1: 2732; Pricing 1: 1=1.72, 10=1.394, 100=1.0647, 500=0.8112, 1000=0.7098, 2500=0.6845, 5000=0.6591 (USD); Mount: Through Hole; Case/Package: Radial; Min Operating Temperature: -25°C; Max Operating Temperature: 70°C; Packaging: Bulk; Voltage Rating: 5.5V; Package Quantity: 2000; Termination: Radial; Voltage: 5.5V; Diameter: 11mm; Length: 5mm; Lead Pitch: 5.08mm; Height - Seated (Max): 0.217inch; Depth: 5mm; Radiation Hardening: No; REACH SVHC: No SVHC; ComponentLink1URL: https://api.kemet.com/component-edge/download/datasheet/FYL0H103ZF.pdf?src-supplier=Digi-Key; ComponentLink1Description: https://api.kemet.com/component-edge/download/datasheet/FYL0H103ZF.pdf?src-supplier=Digi-Key; ComponentLink2URL: http://www.farnell.com/datasheets/2024570.pdf?src-supplier=Element14; ComponentLink2Description: http://www.farnell.com/datasheets/2024570.pdf?src-supplier=Element14; ComponentLink3URL: http://uk.rs-online.com/webdocs/1517/0900766b81517508.pdf?src-supplier=RSComponents; ComponentLink3Description: http://uk.rs-online.com/webdocs/1517/0900766b81517508.pdf?src-supplier=RSComponents

## G6K-2F-TR-DC24
designator K?
RELAY TELECOM DPDT 1A 24VDC; Manufacturer: Omron; Coil Current: 4.6mA; Coil Resistance: 5.22kR; Coil Voltage (DC): 24V; Max Voltage Rating (AC): 125V; Max Voltage Rating (DC): 60V; Operate Time: 3ms; Coil Type: Non-Latching; Coil Power: 100mW; Supplier 1: Digi-Key; Manufacturer Part Number: G6K-2F-TR-DC24; RoHS: Yes; Category: Signal Relays; Stock 1: 5460; Pricing 1: 1=4,25000, 10=3,98100, 25=3,53840, 50=3,36140, 100=3,18440, 250=2,83060 (USD); Mount: Surface Mount; Number of Pins: 8; Weight: 0.7g; Contact Material: Gold,Silver; Min Operating Temperature: -40°C; Max Operating Temperature: 70°C; Packaging: Tape and Reel; Throw Configuration: DPDT; Contact Current Rating: 1A; Max Current Rating: 1A; Termination: Gull Wing; Package Quantity: 900; Relay Type: Telecom; Release Time: 3ms; Radiation Hardening: No; ComponentLink1URL: https://datasheet.ciiva.com/26923/g6k-2f-tr-dc24-26923230.pdf?src-supplier=IIIC; ComponentLink1Description: https://datasheet.ciiva.com/26923/g6k-2f-tr-dc24-26923230.pdf?src-supplier=IIIC; Supplier Part Number 1: Z114CT-ND
footprint G6K-2F (G6K Relay)
part A pins: 1, 8
part B pins: 2, 3, 4
part C pins: 5, 6, 7

## G6K-2G-TR DC5
designator K?
OMRON ELECTRONIC COMPONENTS         G6K-2G-TR DC5            SIGNAL RELAY, DPDT, 5VDC, 1A, SMD; Manufacturer Part Number: G6K-2G-TR-DC5; Power Consumption: 100mW; Coil Current: 21.1mA; Operate Time: 3ms; Coil Resistance: 237R; Relay Type: Telecom; Coil Type: Non-Latching; Coil Voltage (DC): 5V; Max Voltage Rating (AC): 125V; Max Voltage Rating (DC): 60V; Supplier 1: Digi-Key; Manufacturer: Omron; RoHS: Yes; Category: Signal Relays; Mount: Surface Mount; Number of Pins: 8; Weight: 0.7g; Contact Material: Gold,Silver; Min Operating Temperature: -40°C; Max Operating Temperature: 70°C; Package Quantity: 1; Packaging: Tape and Reel; Contact Current Rating: 1A; Throw Configuration: DPDT; Release Time: 3ms; Termination: Gull Wing; Coil Power: 100mW; Max Current Rating: 1A; Length: 10mm; Height: 5mm; Width: 6.5mm; Radiation Hardening: No; REACH SVHC: Unknown; Lead Free: Lead Free; ComponentLink1URL: https://datasheet.ciiva.com/2416/en-g6k-2416486.pdf?src-supplier=Digi-Key; ComponentLink1Description: https://datasheet.ciiva.com/2416/en-g6k-2416486.pdf?src-supplier=Digi-Key; ComponentLink2URL: https://datasheet.ciiva.com/1525/en-g6k-1525321.pdf?src-supplier=Element14; ComponentLink2Description: https://datasheet.ciiva.com/1525/en-g6k-1525321.pdf?src-supplier=Element14; ComponentLink3URL: https://datasheet.ciiva.com/30148/81en-g6k-30148553.pdf?src-supplier=Onlinecomponents.com; ComponentLink3Description: https://datasheet.ciiva.com/30148/81en-g6k-30148553.pdf?src-supplier=Onlinecomponents.com; ComponentLink4URL: https://datasheet.ciiva.com/5246/en-g6k-348800-5246859.pdf?src-supplier=Mouser; ComponentLink4Description: https://datasheet.ciiva.com/5246/en-g6k-348800-5246859.pdf?src-supplier=Mouser; Supplier Part Number 1: Z2657CT-ND
footprint G6K-2G (G6K Relay)
part A pins: 1, 8
part B pins: 2, 3, 4
part C pins: 5, 6, 7

## I0603
designator L?  value 1  (hidden comment: *)
Катушка 0.6x0.3 мм; Current: *; PartNo: *; Supplier 1: *; Supplier Part Number 1: *
footprint INDC0603X03N (Chip Inductor, 2-Leads, Body 0.60x0.30mm, IPC Medium Density)
pins: 1, 2

## I1005
designator L?  value 1  (hidden comment: *)
Катушка 1.0x0.5 мм; Tolerance: ±5%; Current: *; PartNo: *; Supplier 1: *; Supplier Part Number 1: *
footprint INDC1005X06N (Chip Inductor, 2-Leads, Body 1.00x0.50mm, IPC Medium Density)
pins: 1, 2

## I1608
designator L?  value 1  (hidden comment: *)
Катушка 1.6x0.8 мм; Current: *; PartNo: *; Supplier 1: *; Supplier Part Number 1: *
footprint INDC1608X08N (Chip Inductor, 2-Leads, Body 1.60x0.80mm, IPC Medium Density)
footprint LQW18A (Footprint not found)
pins: 1, 2

## ICE5LP1K-SG48ITR50
designator DD?
IC FPGA 1100LUTS 1.2V 48QFN; Manufacturer: Lattice Semiconductor; Number of Logic Blocks (LABs): 138; Number of Logic Elements/Cells: 1100; RAM Size: 65536b; Number of I/Os: 39; Supplier 1: Digi-Key; Manufacturer Part Number: ICE5LP1K-SG48ITR50; Stock 1: 3737; Pricing 1: 1=3.38 (USD); Mount: Surface Mount; Case/Package: QFN; Min Operating Temperature: -40°C; Max Operating Temperature: 100°C; Supplier Part Number 1: 220-2064-1-ND; РКД Наименование: *; Supplier 2: Digi-Key; Stock 2: 154297; Pricing 2: 1=0.47, 10=0.346, 100=0.196, 500=0.1298, 1000=0.0995 (USD); Supplier Part Number 2: 497-17154-1-ND
footprint QFN50P700X700X100_HS-49N (QFN, 48-Leads, Body 7,00x7,00mm, Pitch 0,50mm, Thermal Pad 5,40x5,40mm, IPC Medium Density)
pins: 1 VCCIO_2, 2 IOB_6a, 3 IOB_9b, 4 IOB_8a, 5 VCC, 6 IOB_13b, 7 CDONE, 8 CRESET_B, 9 IOB_16a, 10 IOB_18a, 11 IOB_20a, 12 IOB_22a, 13 IOB_24a, 14 IOB_32a/SPI_SO, 15 IOB_34a/SPI_SCK, 16 IOB_35b/SPI_SS, 17 IOB_33b/SPI_SI, 18 IOB_31b, 19 IOB_29b, 20 IOB_25b/G3, 21 IOB_23b, 22 SPI_VCCIO_1, 23 IOT_37a, 24 VPP_2V5, 25 IOT_36b, 26 IOT_39a, 27 IOT_38b, 28 IOT_41a, 29 VCCPLL, 30 VCC, 31 IOT_42b, 32 IOT_43a, 33 VCCIO_0, 34 IOT_44b, 35 IOT_46b/G0, 36 IOT_48b, 37 IOT_45a/G1, 38 IOT_50b, 39 RGB2, 40 RGB1, 41 RGB0, 42 IOT_51a, 43 IOT_49a, 44 IOB_3b/G6, 45 IOB_5b, 46 IOB_0a, 47 IOB_2a, 48 IOB_4a, 49 GND
text: FPGA; BANK1; BANK0; BANK2

## IHLP2020CZER3R3M01
designator L?  value 3.3u  (hidden comment: IHLP2020CZER3R3M01)
Fixed Inductors 3.3uH 20%; Manufacturer: Vishay Dale; Core Material: Metal,Composite; DC Resistance (DCR): 54.7mR; Test Frequency: 100kHz; Max DC Current: 8.5A; RMS Current (Irms): 5A; Shielding: Shielded; Self Resonant Frequency: 5MHz; Supplier 1: Digi-Key; Manufacturer Part Number: IHLP2020CZER3R3M01; RoHS: Yes; Category: Fixed Inductors; Stock 1: 66739; Pricing 1: 1=2,39000, 10=2,20800, 100=1,54560, 500=1,25120, 1000=1,14080 (USD); Mount: Surface Mount; Case/Package: 2020; Contact Plating: Tin; Min Operating Temperature: -55°C; Max Operating Temperature: 125°C; Tolerance: 20%; Inductance: 3.3uH; Termination: SMD/SMT; Military Standard: Not; Packaging: Tape and Reel; Package Quantity: 2000; Current Rating: 5A; Saturation Current: 8.5A; Inductance Tolerance: 20%; Length: 5.74mm; Height: 3mm; Depth: 5.43mm; Height - Seated (Max): 0.118inch; Width: 0.204inch; Radiation Hardening: No; Lead Free: Lead Free; REACH SVHC: Unknown; ComponentLink1URL: https://datasheet.ciiva.com/8494/lp20cz01-8494984.pdf?src-supplier=Avnet; ComponentLink1Description: https://datasheet.ciiva.com/8494/lp20cz01-8494984.pdf?src-supplier=Avnet; ComponentLink2URL: https://datasheet.ciiva.com/1051/lp20cz01-1051661.pdf?src-supplier=Digi-Key; ComponentLink2Description: https://datasheet.ciiva.com/1051/lp20cz01-1051661.pdf?src-supplier=Digi-Key; ComponentLink3URL: https://datasheet.ciiva.com/17269/lp20cz01-17269549.pdf?src-supplier=Avnet+Europe; ComponentLink3Description: https://datasheet.ciiva.com/17269/lp20cz01-17269549.pdf?src-supplier=Avnet+Europe; ComponentLink4URL: https://datasheet.ciiva.com/16390/lp20cz01-16390407.pdf?src-supplier=Future+Electronics; ComponentLink4Description: https://datasheet.ciiva.com/16390/lp20cz01-16390407.pdf?src-supplier=Future+Electronics; ComponentLink5URL: https://datasheet.ciiva.com/1051/lp20cz01-1051660.pdf?src-supplier=Digi-Key; ComponentLink5Description: https://datasheet.ciiva.com/1051/lp20cz01-1051660.pdf?src-supplier=Digi-Key; ComponentLink6URL: https://datasheet.ciiva.com/1051/lp20cz01-1051662.pdf?src-supplier=Digi-Key; ComponentLink6Description: https://datasheet.ciiva.com/1051/lp20cz01-1051662.pdf?src-supplier=Digi-Key; Supplier Part Number 1: 541-1269-1-ND
footprint IHLP2020CZ Inductor
pins: 1, 2

## IHLP2525CZER1R5M01
designator L?  value 1.5u  (hidden comment: IHLP2525CZER1R5M01)
Inductor;  High Current;  Ind 1.5uH;  Tol 20%;  Cur 9A;  SMT;  Case 2525;  DCR 14 Ohms; Manufacturer: Vishay Dale; Core Material: Metal,Composite,Ferrite; DC Resistance (DCR): 15mR; Self Resonant Frequency: 5MHz; Shielding: Shielded; Saturation Current: 18A; Test Frequency: 100kHz; Supplier 1: Digi-Key; Manufacturer Part Number: IHLP2525CZER1R5M01; RoHS: Yes; Category: Fixed Inductors; Stock 1: 15292; Pricing 1: 1=2,28000, 10=2,10500, 100=1,47320, 500=1,19256, 1000=1,08733 (USD); Mount: Surface Mount; Case/Package: 2525; Number of Pins: 2; Case Code (Imperial): 2525; Contact Plating: Tin,Matte; Min Operating Temperature: -55°C; Max Operating Temperature: 125°C; Tolerance: 20%; Inductance: 1.5uH; Packaging: Tape and Reel; Inductance Tolerance: 20%; Package Quantity: 2000; Current Rating: 9A; Max DC Current: 18A; Termination: SMD/SMT; RMS Current (Irms): 9A; Military Standard: Not; Length: 7.24mm; Height: 3mm; Depth: 6.72mm; Width: 6.47mm; Height - Seated (Max): 0.118inch; Radiation Hardening: No; REACH SVHC: Unknown; Lead Free: Lead Free; ComponentLink1URL: https://datasheet.ciiva.com/8017/18204-8017264.pdf?src-supplier=Element14; ComponentLink1Description: https://datasheet.ciiva.com/8017/18204-8017264.pdf?src-supplier=Element14; ComponentLink2URL: https://datasheet.ciiva.com/11798/0900766b8102c934-11798389.pdf?src-supplier=RSComponents; ComponentLink2Description: https://datasheet.ciiva.com/11798/0900766b8102c934-11798389.pdf?src-supplier=RSComponents; ComponentLink3URL: https://datasheet.ciiva.com/26914/getdatasheetpartid-111471-26914732.pdf?src-supplier=Verical; ComponentLink3Description: https://datasheet.ciiva.com/26914/getdatasheetpartid-111471-26914732.pdf?src-supplier=Verical; ComponentLink4URL: https://datasheet.ciiva.com/26793/ihlp2525czer1r5m01-26793530.pdf?src-supplier=IIIC; ComponentLink4Description: https://datasheet.ciiva.com/26793/ihlp2525czer1r5m01-26793530.pdf?src-supplier=IIIC; ComponentLink5URL: https://datasheet.ciiva.com/22694/18204-22694486.pdf?src-supplier=Element14; ComponentLink5Description: https://datasheet.ciiva.com/22694/18204-22694486.pdf?src-supplier=Element14; ComponentLink6URL: https://datasheet.ciiva.com/16940/70201586-16940446.pdf?src-supplier=Allied+Electronics; ComponentLink6Description: https://datasheet.ciiva.com/16940/70201586-16940446.pdf?src-supplier=Allied+Electronics; Supplier Part Number 1: 541-1007-1-ND
footprint IHLP2525CZ Inductor
pins: 1, 2

## IQS127D
designator DA?
Capacitive Touch Sensors Default Config Prox & Touch; Manufacturer: Azoteq; Manufacturer Part Number: IQS127D-00000TSR; Operating Supply Voltage: 5.5V; Number of Channels: 1; Interface: Serial; Supplier 1: Digi-Key; Stock 1: 21916; Pricing 1: 1=0.79, 5=0.754, 10=0.657, 25=0.5772, 50=0.4796, 100=0.4085, 500=0.3552, 1000=0.3108 (USD); Packaging: Tape and Reel; Package Quantity: 3000; Sensing Method: Capacitive; Supplier Part Number 1: 1790-1025-6-ND; РКД Наименование: *
footprint SOT95P280X100-6N (Footprint not found)
pins: 1 TOUT (out), 2 VSS (power), 3 POUT, 4 VREG (out), 5 VDDHI (power), 6 CX (io)

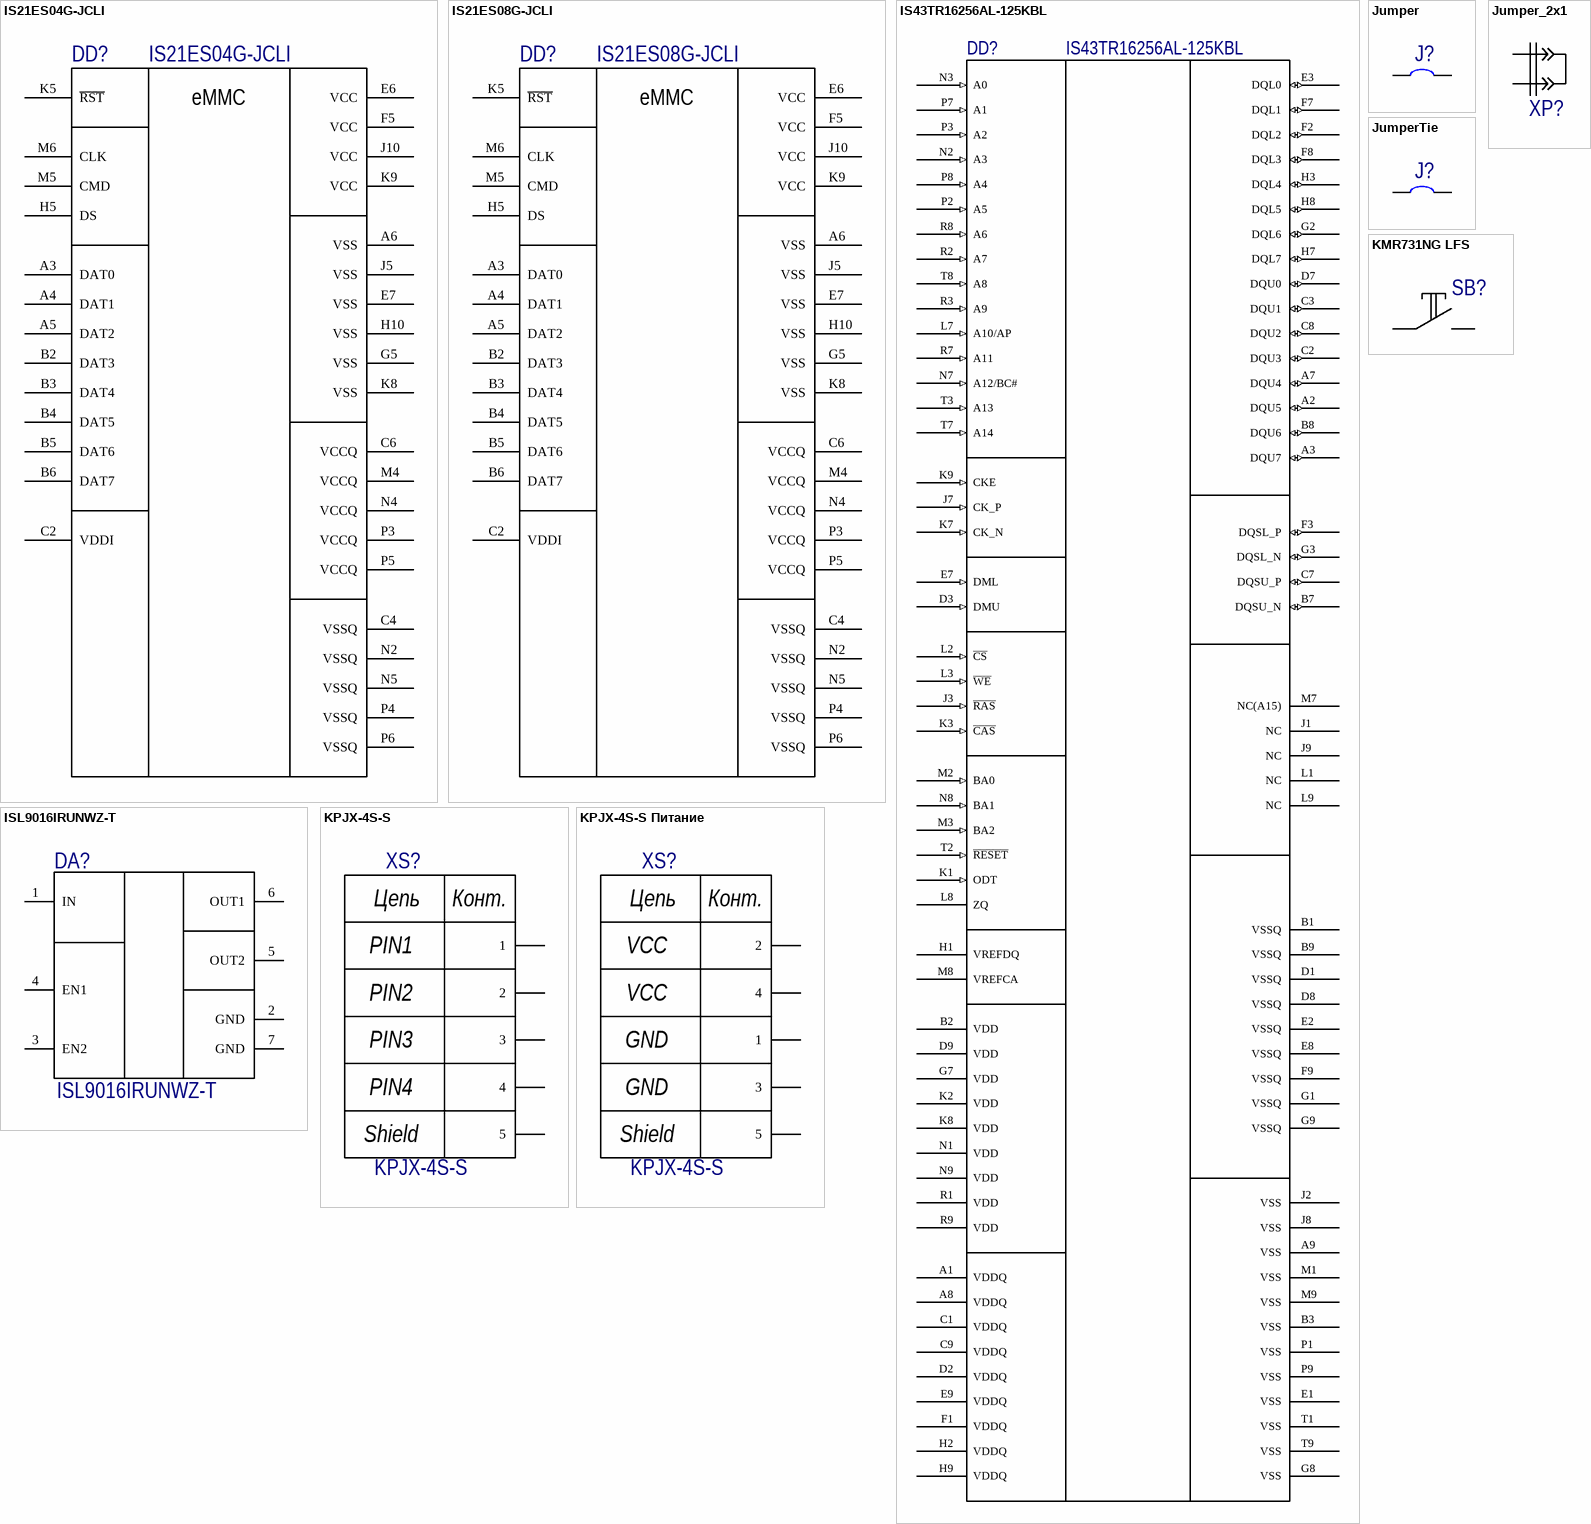
[diagram p5: symbols IS21ES04G-JCLI to KPJX-4S-S Питание]

## IS21ES04G-JCLI
designator DD?
IC FLASH 32G EMMC 153VFBGA; Manufacturer: ISSI; Memory Type: Non-Volatile,FLASH; Memory Size: 32Gb; Frequency: 200MHz; Supplier 1: Digi-Key; Manufacturer Part Number: IS21ES04G-JCLI; RoHS: No; Category: Memory; Stock 1: 1811; Pricing 1: 1=11,12000, 10=10,30100, 25=10,06760, 50=10,01220, 100=8,81450, 250=8,37836, 500=8,29238, 1000=8,01596 (USD); Mount: Surface Mount; Number of Pins: 153; Min Operating Temperature: -40°C; Max Operating Temperature: 85°C; Packaging: Tray; ComponentLink1URL: http://www.farnell.com/datasheets/2622000.pdf?src-supplier=Farnell; ComponentLink1Description: http://www.farnell.com/datasheets/2622000.pdf?src-supplier=Farnell; ComponentLink2URL: http://www.farnell.com/datasheets/2622000.pdf?src-supplier=Newark; ComponentLink2Description: http://www.farnell.com/datasheets/2622000.pdf?src-supplier=Newark; ComponentLink3URL: http://www.issi.com/WW/pdf/IS21-22ES04G.pdf?src-supplier=Digi-Key; ComponentLink3Description: http://www.issi.com/WW/pdf/IS21-22ES04G.pdf?src-supplier=Digi-Key; Supplier Part Number 1: 706-1640-ND
footprint BGA153C50P14X14_1150X1300X100 (BGA, 153-Leads, Body 11,50x13,00mmx1,00mm, Pitch 0,50mm)
pins: A3 DAT0, A4 DAT1, A5 DAT2, A6 VSS, B2 DAT3, B3 DAT4, B4 DAT5, B5 DAT6, B6 DAT7, C2 VDDI, C4 VSSQ, C6 VCCQ, E6 VCC, E7 VSS, F5 VCC, G5 VSS, H5 DS, H10 VSS, J5 VSS, J10 VCC, K5 ~{RST}, K8 VSS, K9 VCC, M4 VCCQ, M5 CMD, M6 CLK, N2 VSSQ, N4 VCCQ, N5 VSSQ, P3 VCCQ, P4 VSSQ, P5 VCCQ, P6 VSSQ
text: eMMC

## IS21ES08G-JCLI
designator DD?
IC FLASH 64G EMMC 153VFBGA; Manufacturer: ISSI; Supplier 1: Digi-Key; Manufacturer Part Number: IS21ES08G-JCLI; RoHS: No; Stock 1: 1073; Pricing 1: 1=16,02000, 10=14,84000, 25=14,63320, 50=14,45380, 100=12,66730, 250=12,11964, 500=12,03882 (USD); ComponentLink1URL: https://media.digikey.com/pdf/Data%20Sheets/ISSI%20PDFs/IS2xE04G,08G,16G,32G,64G_Flyer.pdf?src-supplier=Digi-Key; ComponentLink1Description: https://media.digikey.com/pdf/Data%20Sheets/ISSI%20PDFs/IS2xE04G,08G,16G,32G,64G_Flyer.pdf?src-supplier=Digi-Key; ComponentLink2URL: http://www.farnell.com/datasheets/2622001.pdf?src-supplier=Farnell; ComponentLink2Description: http://www.farnell.com/datasheets/2622001.pdf?src-supplier=Farnell; Supplier Part Number 1: 706-1641-ND
footprint BGA153C50P14X14_1150X1300X100 (BGA, 153-Leads, Body 11,50x13,00mmx1,00mm, Pitch 0,50mm)
pins: A3 DAT0, A4 DAT1, A5 DAT2, A6 VSS, B2 DAT3, B3 DAT4, B4 DAT5, B5 DAT6, B6 DAT7, C2 VDDI, C4 VSSQ, C6 VCCQ, E6 VCC, E7 VSS, F5 VCC, G5 VSS, H5 DS, H10 VSS, J5 VSS, J10 VCC, K5 ~{RST}, K8 VSS, K9 VCC, M4 VCCQ, M5 CMD, M6 CLK, N2 VSSQ, N4 VCCQ, N5 VSSQ, P3 VCCQ, P4 VSSQ, P5 VCCQ, P6 VSSQ
text: eMMC

## IS43TR16256AL-125KBL
designator DD?
IC DRAM 4G PARALLEL 96TWBGA; Manufacturer: ISSI; Max Frequency: 800MHz; Max Supply Voltage: 1.45V; Min Supply Voltage: 1.283V; Memory Type: RAM,DDR3 SDRAM; Data Bus Width: 16b; Memory Size: 4Gb; Access Time: 255ps; Supplier 1: Digi-Key; Manufacturer Part Number: IS43TR16256AL-125KBL; RoHS: Yes; Category: Memory; Stock 1: 2873; Pricing 1: 1=8,01000, 10=7,37000, 25=7,21640, 50=7,19100, 100=6,45100, 250=6,25544, 500=5,94924, 1000=5,74088 (USD); Case/Package: TFBGA; Number of Pins: 96; Min Operating Temperature: 0°C; Max Operating Temperature: 70°C; Package Quantity: 190; Packaging: Tray; Interface: Parallel; Frequency: 800MHz; ComponentLink1URL: https://datasheet.ciiva.com/18617/43-46tr16256a-85120al-18617927.pdf?src-supplier=Digi-Key; ComponentLink1Description: https://datasheet.ciiva.com/18617/43-46tr16256a-85120al-18617927.pdf?src-supplier=Digi-Key; Supplier Part Number 1: 706-1207-ND
footprint BGA96C80P9X16_900X1300X120 (BGA, 96-Leads, Body 9,00x13,00mmx1,20mm, Pitch 0,80mm)
pins: A1 VDDQ (power), A2 DQU5 (io), A3 DQU7 (io), A7 DQU4 (io), A8 VDDQ (power), A9 VSS (power), B1 VSSQ (power), B2 VDD (power), B3 VSS (power), B7 DQSU_N (io), B8 DQU6 (io), B9 VSSQ (power), C1 VDDQ (power), C2 DQU3 (io), C3 DQU1 (io), C7 DQSU_P (io), C8 DQU2 (io), C9 VDDQ (power), D1 VSSQ (power), D2 VDDQ (power), D3 DMU (in), D7 DQU0 (io), D8 VSSQ (power), D9 VDD (power), E1 VSS (power), E2 VSSQ (power), E3 DQL0 (io), E7 DML (in), E8 VSSQ (power), E9 VDDQ (power), F1 VDDQ (power), F2 DQL2 (io), F3 DQSL_P (io), F7 DQL1 (io), F8 DQL3 (io), F9 VSSQ (power), G1 VSSQ (power), G2 DQL6 (io), G3 DQSL_N (io), G7 VDD (power), G8 VSS (power), G9 VSSQ (power), H1 VREFDQ (power), H2 VDDQ (power), H3 DQL4 (io), H7 DQL7 (io), H8 DQL5 (io), H9 VDDQ (power), J1 NC, J2 VSS (power), J3 ~{RAS} (in), J7 CK_P (in), J8 VSS (power), J9 NC, K1 ODT (in), K2 VDD (power), K3 ~{CAS} (in), K7 CK_N (in), K8 VDD (power), K9 CKE (in), L1 NC, L2 ~{CS} (in), L3 ~{WE} (in), L7 A10/AP (in), L8 ZQ (power), L9 NC, M1 VSS (power), M2 BA0 (in), M3 BA2 (in), M7 NC(A15), M8 VREFCA (power), M9 VSS (power), N1 VDD (power), N2 A3 (in), N3 A0 (in), N7 A12/BC# (in), N8 BA1 (in), N9 VDD (power), P1 VSS (power), P2 A5 (in), P3 A2 (in), P7 A1 (in), P8 A4 (in), P9 VSS (power), R1 VDD (power), R2 A7 (in), R3 A9 (in), R7 A11 (in), R8 A6 (in), R9 VDD (power), T1 VSS (power), T2 ~{RESET} (in), T3 A13 (in), T7 A14 (in), T8 A8 (in), T9 VSS (power)

## ISL9016IRUNWZ-T
designator DA?
IC REG LINEAR 3.3V/1.2V 6UTDFN, OUT1 - 3.3V, OUT2 - 1.2V; Manufacturer: Intersil; Dropout Voltage: 120mV; Number of Outputs: 2; Min Input Voltage: 1.8V; Max Input Voltage: 6.5V; Output Current: 150mA; Min Current Limit: 175mA; Polarity: Positive; Quiescent Current: 49uA; Accuracy: 0.8%; Power Supply Rejection Ratio (PSRR): 80dB; Output Type: Fixed; Supplier 1: Digi-Key; Stock 1: 2211; Pricing 1: 1=1.22, 10=1.094, 25=1.0384, 100=0.8528, 250=0.79724, 500=0.70452, 1000=0.5562 (USD); Mount: Surface Mount; Number of Pins: 6; Min Operating Temperature: -40°C; Max Operating Temperature: 85°C; Package Quantity: 1; Packaging: Tape and Reel; Output Voltage: 1.2V; Number of Regulators: 2; ComponentLink1URL: http://www.intersil.com/content/dam/Intersil/documents/isl9/isl9016.pdf?src-supplier=Digi-Key; ComponentLink1Description: http://www.intersil.com/content/dam/Intersil/documents/isl9/isl9016.pdf?src-supplier=Digi-Key; ComponentLink2URL: http://www.intersil.com/content/dam/Intersil/documents/isl9/isl9016.pdf?src-supplier=Avnet; ComponentLink2Description: http://www.intersil.com/content/dam/Intersil/documents/isl9/isl9016.pdf?src-supplier=Avnet; Manufacturer Part Number: ISL9016IRUNWZ-T; Supplier Part Number 1: ISL9016IRUNWZ-TCT-ND
footprint SON50P160X55_HS-7N (SON, 6-Leads, Body 1,60x1,60mm, Pitch 0,50mm, Thermal Pad 1,00x0,43mm, IPC Medium Density)
pins: 1 IN, 2 GND, 3 EN2, 4 EN1, 5 OUT2, 6 OUT1, 7 GND

## Jumper
designator J?  (value not drawn)
footprint Jumper_5
footprint Jumper_6
footprint Jumper_7
footprint Jumper_8
footprint Jumper_9
footprint Jumper_10
footprint Jumper_11
footprint Jumper_12
footprint Jumper_13
footprint Jumper_14
footprint Jumper_15
footprint Jumper_16
footprint Jumper_17
footprint Jumper_18
footprint Jumper_19
footprint Jumper_20
footprint Jumper_30 (Перемычка 30 мм отверстия)
pins: 1, 2

## Jumper_2x1
designator XP?, comment Jumper  (value not drawn)
Jumper 2x1 pins, PLD2x1
footprint PLD 2X1
pins: 1, 2

## JumperTie
designator J?  (value not drawn)  (net tie, no BOM)
footprint JumperTie
pins: 1, 2

## KMR731NG LFS
designator SB?  (value not drawn)
Tactile Switch SPST-NO Top Actuated Surface Mount; Manufacturer: ITT C&K; Mechanical Life: 150000Cycles; Illumination Type: Non-Illuminated; Operating Force: 300gf; Throw Configuration: SPST; Switch Function: Off-Mom; Actuator Type: Standard; Ratings: Dust Tight,IP67,Waterproof; Supplier 1: Digi-Key; Manufacturer Part Number: KMR731NGLFS; Stock 1: 0; Mount: Surface Mount; Min Operating Temperature: -40°C; Max Operating Temperature: 85°C; Packaging: Tape and Reel; Termination: Gull Wing; Supplier Part Number 1: CKN10687CT-ND; РКД Наименование: *
footprint KMR7 (Tactile button)
pins: 1, 2

## KPJX-4S-S
designator XS?
CONN JACK FMALE 4POS TIN SOLDER; Manufacturer: Kycon; Voltage Rating (DC): 20V; Connector Type: Power; Gender: Female; Current Rating: 7.5A; Insulation Resistance: 50MR; Number of Contacts: 4; Supplier 1: Digi-Key; Manufacturer Part Number: KPJX-4S-S; RoHS: Yes; Category: Connectors; Stock 1: 3946; Pricing 1: 1=2,23000, 10=2,02100, 25=1,89760, 50=1,81500, 100=1,73250, 250=1,56752, 500=1,44376, 1000=1,23750, 2500=1,15500 (USD); Mount: Through Hole; Color: Black; Contact Material: Brass; Contact Plating: Tin; Housing Material: PBT; Orientation: Straight; Termination: Solder; Packaging: Tray; Voltage Rating: 20V; Contact Gender: Female; Package Quantity: 170; Radiation Hardening: No; Flammability Rating: UL94 V-0; ComponentLink1URL: https://datasheet.ciiva.com/4561/kpjx-365262-4561421.pdf?src-supplier=Mouser; ComponentLink1Description: https://datasheet.ciiva.com/4561/kpjx-365262-4561421.pdf?src-supplier=Mouser; Supplier Part Number 1: 2092-KPJX-4S-S-ND
footprint KPJX-4S-S
pins: 1, 2, 3, 4, 5
text: Цепь; Конт.; PIN1; PIN2; PIN3; PIN4; Shield